# Altium schematic symbol library SM05B-SRSS-TB_LF__SN_.SCHLIB: 1 symbol
Pins are listed as number, name and electrical type; pins without a type are passive.

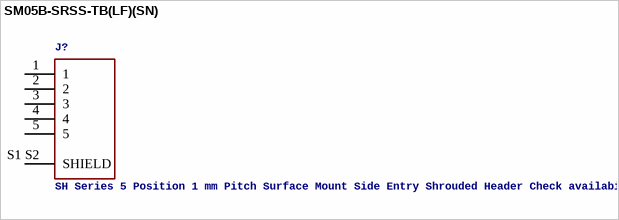
[diagram p0: symbol SM05B-SRSS-TB(LF)(SN)]

## SM05B-SRSS-TB(LF)(SN)
designator J?, comment SH Series 5 Position 1 mm Pitch Surface Mount Side Entry Shrouded Header Check availability
GateName_1: G$1; SymbolName_1: SM05B-SRSS-TB(LF)(SN); MP: SM05B-SRSS-TB (LF)(SN); Description: Connector Header Surface Mount, Right Angle 5 position 0.039 (1.00mm); MF: JST; LibraryName: SM05B-SRSS-TB_LF__SN_; DeviceSetName: SM05B-SRSS-TB(LF)(SN); Availability: In Stock; Purchase-URL: https://pricing.snapeda.com/search/part/SM05B-SRSS-TB (LF)(SN)/?ref=eda; Package: None; Price: None
footprint JST_SM05B-SRSS-TB(LF)(SN)
pins: 1, 2, 3, 4, 5, S1 S2 SHIELD